# Altium schematic symbol library N_P-MOSFET-6L.B.SchLib: 1 symbol
Pins are listed as number, name and electrical type; pins without a type are passive.

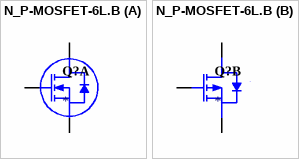
[diagram p0: symbol N_P-MOSFET-6L.B]

## N_P-MOSFET-6L.B
designator Q?
part A pins: 1 S, 2 G, 6 D
part B pins: 3 D, 4 S, 5 G